# Altium footprint library 002-0081 Rev -.PcbLib: 21 footprints (part 2 of 2)
Each footprint in its own frame and in the unit in brackets; x right, y up, seen from the top. Pads: shape width x height; smd on the part's side, far side on the other; paste and mask are expansions set on the pad; w line width, h text height; cw(c..) or ccw(c..) is an arc to the next point about the centre after c.
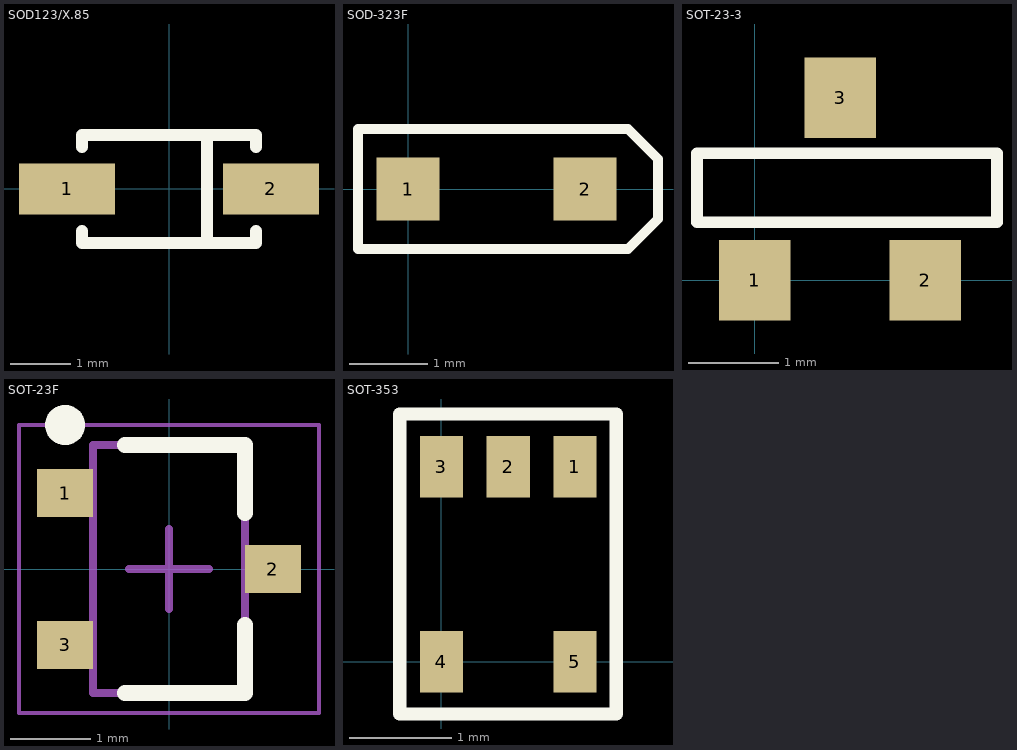
[diagram p1: the footprints below, top view; thin cyan lines are the x and y axes]

## SOD123/X.85 [mm]
pads (2):
  rect 1.6x0.85 smd: 1(-1.7,0) 2(1.7,0)
Top Overlay:
  lines w0.2: -1.45,-0.7 -1.45,-0.9 1.45,-0.9 1.45,-0.7 ; -1.45,0.7 -1.45,0.9 1.45,0.9 1.45,0.7 ; 0.635,-0.889 0.635,0.864

## SOD-323F [mm]
pads (2):
  rect 0.8x0.8 smd: 1(0,0) 2(2.25,0)
Top Overlay:
  lines w0.127: -0.635,-0.762 -0.635,0.762 2.794,0.762 3.175,0.381 3.175,-0.381 2.794,-0.762 -0.635,-0.762

## SOT-23-3 [mil]
pads (3):
  rect 31x35 smd: 1(0,0) 2(74,0) 3(37,79)
Top Overlay:
  lines w5: -25,25 105,25 105,55 -25,55 -25,25

## SOT-23F [mm] "SOT23, 3-Leads, Body 2.90x2.40mm, Pitch 0.95mm, IPC Medium Density"
height 0.88
pads (3):
  rect 0.7x0.6 smd: 1(-1.3,0.95) 2(1.3,0) 3(-1.3,-0.95)
Top Overlay:
  circle w0.25: c-1.3,1.8 r0.125
  lines w0.2: -0.55,-1.55 0.95,-1.55 0.95,-0.7 ; -0.55,1.55 0.95,1.55 0.95,0.7
Assembly Top:
  lines w0.1: -0.95,-1.55 0.95,-1.55 0.95,1.55 -0.95,1.55 -0.95,-1.55
Courtyard Top:
  lines w0.05: -1.875,-1.8 1.875,-1.8 1.875,1.8 -1.875,1.8 -1.875,-1.8
  lines w0.1: -0.5,0 0.5,0 ; 0,-0.5 0,0.5
3D body "SOT-23F.step": height 0.97, standoff 0.1, extent -1.317,-1.55 1.317,1.55

## SOT-353 [mm]
pads (5):
  rect 0.42x0.6 smd: 1(1.3,1.9) 2(0.65,1.9) 3(0,1.9) 4(0,0) 5(1.3,0)
Top Overlay:
  lines w0.127: -0.406,-0.508 -0.406,2.413 1.702,2.413 1.702,-0.508 -0.406,-0.508